# Altium footprint library PCB_Lib.PcbLib: 40 footprints (part 1 of 3)
Each footprint in its own frame and in the unit in brackets; x right, y up, seen from the top. Pads: shape width x height; smd on the part's side, far side on the other; paste and mask are expansions set on the pad; w line width, h text height; cw(c..) or ccw(c..) is an arc to the next point about the centre after c.
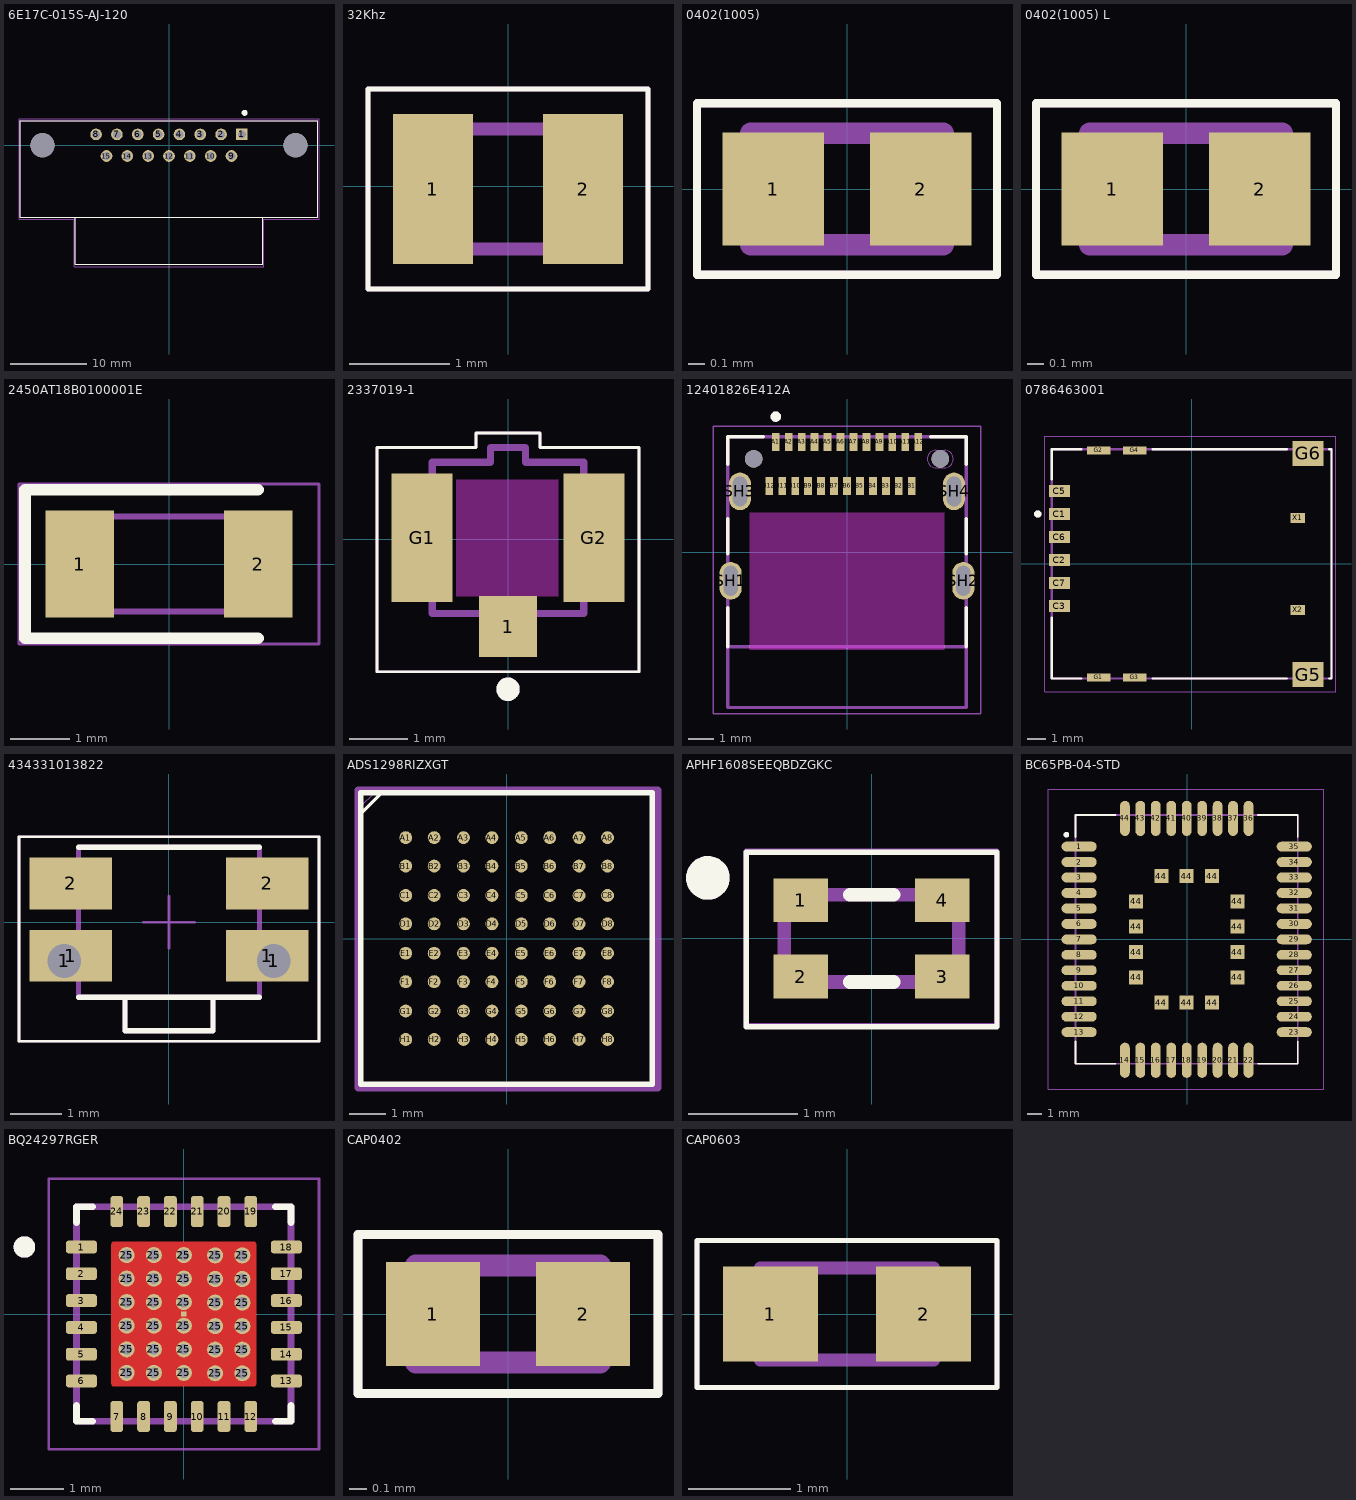
[diagram p0: the footprints below, top view; thin cyan lines are the x and y axes]

## 6E17C-015S-AJ-120 [mm] "15 Position D-Sub Receptacle, Female Sockets Connector"
pads (17):
  rect 1.53x1.53 hole 1.02: 1(9.576,1.397)
  round 1.53 hole 1.02: 2(6.833,1.397) 3(4.089,1.397) 4(1.346,1.397) 5(-1.397,1.397) 6(-4.14,1.397) 7(-6.883,1.397) 8(-9.627,1.397) 9(8.204,-1.448) 10(5.461,-1.448) 11(2.718,-1.448) 12(-0.025,-1.448) 13(-2.769,-1.448) 14(-5.512,-1.448) 15(-8.255,-1.448)
  round 3.175 hole 3.175 unplated: ""(-16.688,-0.025) ""(16.637,-0.025)
Top Overlay:
  circle w0.4: c9.931,4.242 r0.2
  lines w0.127: -12.357,-9.525 12.306,-9.525 ; -12.357,-9.525 -19.596,-9.525 -19.596,3.175 19.545,3.175 19.545,-9.525 12.306,-9.525 ; -12.357,-9.525 -12.357,-15.672 12.306,-15.672 12.306,-9.525
Mechanical 13:
  circle w0.4: c9.576,1.397 r0.2
  lines w0.127: -12.357,-9.525 12.306,-9.525 ; -12.357,-9.525 -19.596,-9.525 -19.596,3.175 19.545,3.175 19.545,-9.525 12.306,-9.525 ; -12.357,-9.525 -12.357,-15.672 12.306,-15.672 12.306,-9.525
Mechanical 15:
  lines w0.05: -19.775,-9.775 -12.525,-9.775 -12.525,-16.025 12.475,-16.025 12.475,-9.775 19.725,-9.775 19.725,3.475 -19.775,3.475 -19.775,-9.775
3D body "6E17C015SAJ120--3DModel-STEP-533217.STEP": height 12.55, standoff -4.1, extent -19.549,-15.519 19.651,3.127

## 32Khz [mm]
pads (2):
  rect 0.8x1.5 smd: 1(-0.75,-0.025) 2(0.75,-0.025)
Top Overlay:
  lines w0.05: -1.4,-1.025 -1.4,0.975 1.4,0.975 1.4,-1.025 -1.4,-1.025
Mechanical 13:
  lines w0.127: -1,-0.625 1,-0.625 1,0.575 -1,0.575 -1,-0.625
Mechanical 15:
  lines w0.05: -1.4,-1.025 1.4,-1.025 1.4,0.975 -1.4,0.975 -1.4,-1.025
3D body "step_temp.STEP": height 0.6, standoff 0, extent -1,-0.625 1,0.575

## 0402(1005) [mm]
pads (2):
  rect 0.6x0.67 smd: 1(-0.437,0) 2(0.437,0)
Top Overlay:
  lines w0.05: -0.889,-0.508 0.889,-0.508 0.889,0.508 -0.889,0.508 -0.889,-0.508
Mechanical 13:
  lines w0.127: -0.57,-0.33 -0.57,0.33 0.57,0.33 0.57,-0.33 -0.57,-0.33
Mechanical 15:
  lines w0.05: -0.889,-0.508 -0.889,0.508 0.889,0.508 0.889,-0.508 -0.889,-0.508
3D body "step_temp.STEP": height 0.5, standoff 0, extent -0.5,-0.25 0.5,0.25

## 0402(1005) L [mm]
pads (2):
  rect 0.6x0.67 smd: 1(-0.437,0) 2(0.437,0)
Top Overlay:
  lines w0.05: -0.889,-0.508 0.889,-0.508 0.889,0.508 -0.889,0.508 -0.889,-0.508
Mechanical 13:
  lines w0.127: -0.57,-0.33 -0.57,0.33 0.57,0.33 0.57,-0.33 -0.57,-0.33
Mechanical 15:
  lines w0.05: -0.889,-0.508 -0.889,0.508 0.889,0.508 0.889,-0.508 -0.889,-0.508
3D body "LQG15HS2N2B02D.STEP": height 0.55, standoff 0, extent -0.5,-0.25 0.5,0.25

## 2450AT18B0100001E [mm]
pads (2):
  rect 1.15x1.8 smd: 1(-1.5,0) 2(1.5,0)
Top Overlay:
  lines w0.2: 1.5,-1.25 -2.425,-1.25 -2.425,1.25 1.5,1.25
Mechanical 13:
  lines w0.05: -2.525,-1.35 -2.525,1.35 2.525,1.35 2.525,-1.35 -2.525,-1.35
  lines w0.1: -1.6,0.225 -1.025,0.8 ; -1.6,-0.8 -1.6,0.8 1.6,0.8 1.6,-0.8 -1.6,-0.8
Mechanical 15:
  lines w0.05: -2.525,-1.35 -2.525,1.35 2.525,1.35 2.525,-1.35 -2.525,-1.35
3D body "step_temp.STEP": height 1.38, standoff -0.01, extent -1.6,-0.8 1.6,0.8

## 2337019-1 [mm] "U.FL (UMCC) Connector Receptacle, Male Pin 50 Ohms Surface Mount Solder"
pads (3):
  rect 1x1.05 smd: 1(0,-1.5)
  rect 1.05x2.2 smd: G1(-1.475,0.025) G2(1.475,0.025)
Top Overlay:
  circle w0.2: c0,-2.575 r0.1
  lines w0.05: -2.25,-2.275 -2.25,1.575 -0.55,1.575 -0.55,1.825 0.55,1.825 0.55,1.575 2.25,1.575 2.25,-2.275 -2.25,-2.275
Keep-Out Layer:
  region: 0.861,-0.975 -0.889,-0.975 -0.889,1.025 0.861,1.025
Mechanical 13:
  circle w0.2: c0,-2.575 r0.1
  lines w0.127: -1.3,-1.275 -1.3,1.325 -0.3,1.325 -0.3,1.575 0.3,1.575 0.3,1.325 1.3,1.325 1.3,-1.275 -1.3,-1.275
Mechanical 15:
  lines w0.05: -2.25,-2.275 -2.25,1.575 -0.55,1.575 -0.55,1.825 0.55,1.825 0.55,1.575 2.25,1.575 2.25,-2.275 -2.25,-2.275
3D body "2337019-1--3DModel-STEP-78480.STEP": height 1.24, standoff -0.01, extent -1.5,-1.525 1.5,1.575

## 12401826E412A [mm] "USB-C (USB TYPE-C) USB 3.2 Gen 2 (USB 3.1 Gen 2, Superspeed + (USB 3.1)) Receptacle Connector 24 Position Surface Mount, Right Angle; Through Hole"
pads (30):
  rect 0.3x0.7 smd mask+0.05: A1(-2.75,4.25) A2(-2.25,4.25) A3(-1.75,4.25) A4(-1.25,4.25) A5(-0.75,4.25) A6(-0.25,4.25) A7(0.25,4.25) A8(0.75,4.25) A9(1.25,4.25) A10(1.75,4.25) A11(2.25,4.25) A12(2.75,4.25) B1(2.5,2.55) B2(2,2.55) B3(1.5,2.55) B4(1,2.55) B5(0.5,2.55) B6(0,2.55) B7(-0.5,2.55) B8(-1,2.55) B9(-1.5,2.55) B10(-2,2.55) B11(-2.5,2.55) B12(-3,2.55)
  oval 0.85x1.45 hole 0.55 slot 1.15 at 90 deg: SH1(-4.49,-1.11) SH2(4.49,-1.11) SH3(-4.13,2.34) SH4(4.13,2.34)
  round 0.675 hole 0.675 unplated: ""(-3.6,3.59) ""(3.6,3.59)
Top Overlay:
  circle w0.2: c-2.75,5.225 r0.1
  lines w0.127: -4.6,-3.65 -4.6,-2.155 ; -4.6,-0.065 -4.6,1.295 ; -4.6,3.385 -4.6,4.45 -3.23,4.45 ; 3.23,4.45 4.6,4.45 4.6,3.385 ; 4.6,-3.65 4.6,-2.155 ; 4.6,-0.065 4.6,1.295
Top Solder:
  region: 3.808,4.025 3.831,4.022 3.853,4.018 3.876,4.013 3.898,4.006 3.919,3.998 3.94,3.99 3.961,3.98 3.981,3.969 4.001,3.957 4.02,3.944 4.038,3.93 4.055,3.915 4.072,3.899 4.088,3.883 4.103,3.865 4.116,3.847 4.129,3.828 4.141,3.809 4.152,3.789 4.162,3.768 4.171,3.747 4.179,3.725 4.185,3.703 4.19,3.681 4.195,3.658 4.198,3.636 4.199,3.613 4.2,3.59 4.199,3.567 4.198,3.544 4.195,3.522 4.19,3.499 4.185,3.477 4.179,3.455 4.171,3.433 4.162,3.412 4.152,3.391 4.141,3.371 4.129,3.352 4.116,3.333 4.103,3.315 4.088,3.297 4.072,3.281 4.055,3.265 4.038,3.25 4.02,3.236 4.001,3.223 3.981,3.211 3.961,3.2 3.94,3.19 3.919,3.182 3.898,3.174 3.876,3.167 3.853,3.162 3.831,3.158 3.808,3.155 3.785,3.153 3.763,3.152 3.438,3.152 3.437,3.153 3.415,3.153 3.392,3.155 3.369,3.158 3.347,3.162 3.324,3.167 3.302,3.174 3.281,3.182 3.26,3.19 3.239,3.2 3.219,3.211 3.199,3.223 3.18,3.236 3.162,3.25 3.145,3.265 3.128,3.281 3.112,3.297 3.097,3.315 3.084,3.333 3.071,3.352 3.059,3.371 3.048,3.391 3.038,3.412 3.029,3.433 3.021,3.455 3.015,3.477 3.01,3.499 3.005,3.522 3.002,3.544 3.001,3.567 3,3.59 3.001,3.613 3.002,3.636 3.005,3.658 3.01,3.681 3.015,3.703 3.021,3.725 3.029,3.747 3.038,3.768 3.048,3.789 3.059,3.809 3.071,3.828 3.084,3.847 3.097,3.865 3.112,3.883 3.128,3.899 3.145,3.915 3.162,3.93 3.18,3.944 3.199,3.957 3.219,3.969 3.239,3.98 3.26,3.99 3.281,3.998 3.302,4.006 3.324,4.013 3.347,4.018 3.369,4.022 3.392,4.025 3.415,4.027 3.785,4.027
Bottom Solder:
  region: 3.808,4.025 3.831,4.022 3.853,4.018 3.876,4.013 3.898,4.006 3.919,3.998 3.94,3.99 3.961,3.98 3.981,3.969 4.001,3.957 4.02,3.944 4.038,3.93 4.055,3.915 4.072,3.899 4.088,3.883 4.103,3.865 4.116,3.847 4.129,3.828 4.141,3.809 4.152,3.789 4.162,3.768 4.171,3.747 4.179,3.725 4.185,3.703 4.19,3.681 4.195,3.658 4.198,3.636 4.199,3.613 4.2,3.59 4.199,3.567 4.198,3.544 4.195,3.522 4.19,3.499 4.185,3.477 4.179,3.455 4.171,3.433 4.162,3.412 4.152,3.391 4.141,3.371 4.129,3.352 4.116,3.333 4.103,3.315 4.088,3.297 4.072,3.281 4.055,3.265 4.038,3.25 4.02,3.236 4.001,3.223 3.981,3.211 3.961,3.2 3.94,3.19 3.919,3.182 3.898,3.174 3.876,3.167 3.853,3.162 3.831,3.158 3.808,3.155 3.785,3.153 3.762,3.153 3.763,3.152 3.438,3.152 3.415,3.153 3.392,3.155 3.369,3.158 3.347,3.162 3.324,3.167 3.302,3.174 3.281,3.182 3.26,3.19 3.239,3.2 3.219,3.211 3.199,3.223 3.18,3.236 3.162,3.25 3.145,3.265 3.128,3.281 3.112,3.297 3.097,3.315 3.084,3.333 3.071,3.352 3.059,3.371 3.048,3.391 3.038,3.412 3.029,3.433 3.021,3.455 3.015,3.477 3.01,3.499 3.005,3.522 3.002,3.544 3.001,3.567 3,3.59 3.001,3.613 3.002,3.636 3.005,3.658 3.01,3.681 3.015,3.703 3.021,3.725 3.029,3.747 3.038,3.768 3.048,3.789 3.059,3.809 3.071,3.828 3.084,3.847 3.097,3.865 3.112,3.883 3.128,3.899 3.145,3.915 3.162,3.93 3.18,3.944 3.199,3.957 3.219,3.969 3.239,3.98 3.26,3.99 3.281,3.998 3.302,4.006 3.324,4.013 3.347,4.018 3.369,4.022 3.392,4.025 3.415,4.027 3.785,4.027
Keep-Out Layer:
  region: 3.75,-3.766 -3.75,-3.766 -3.75,1.524 3.75,1.524
Mechanical 1:
  lines w0: 3.1,3.59 ccw(c3.437,3.59) 3.437,3.253 3.762,3.253 ccw(c3.762,3.59) 4.1,3.59 ccw(c3.762,3.59) 3.762,3.928 3.437,3.928 ccw(c3.437,3.59) 3.1,3.59
Mechanical 13:
  circle w0.2: c-2.75,5.225 r0.1
  lines w0.127: 4.572,-3.65 -4.6,-3.65 ; -4.6,-3.65 -4.6,-6 4.6,-6 4.6,4.45 -4.6,4.45 -4.6,-3.65
Mechanical 15:
  lines w0.05: -5.165,-6.25 -5.165,4.85 5.165,4.85 5.165,-6.25 -5.165,-6.25
3D body "step_temp.STEP": height 3.28, standoff -1.9, extent -4.628,-6.007 4.572,4.483

## 0786463001 [mm] "6 Position Card Connector Micro SIM Surface Mount, Right Angle Gold"
pads (14):
  rect 1.15x0.65 smd: C1(-7.295,2.755) C2(-7.295,0.215) C3(-7.295,-2.325) C5(-7.295,4.025) C6(-7.295,1.485) C7(-7.295,-1.055)
  rect 1.3x0.45 smd: G1(-5.125,-6.27) G2(-5.125,6.27) G3(-3.125,-6.27) G4(-3.125,6.27)
  rect 1.7x1.4 smd: G5(6.435,-6.11) G6(6.435,6.1)
  rect 0.8x0.54 smd: X1(5.855,2.54) X2(5.855,-2.54)
Top Overlay:
  circle w0.2: c-8.49,2.755 r0.1
  lines w0.127: -7.725,-2.97 -7.725,-6.325 -6.095,-6.325 ; -7.725,4.67 -7.725,6.325 -6.095,6.325 ; -2.155,-6.325 5.265,-6.325 ; -2.155,6.325 5.265,6.325 ; 7.605,-6.325 7.725,-6.325 7.725,6.325 7.605,6.325
Mechanical 13:
  circle w0.2: c-8.49,2.755 r0.1
  lines w0.127: -7.725,-6.325 -7.725,6.325 7.725,6.325 7.725,-6.325 -7.725,-6.325
Mechanical 15:
  lines w0.05: -8.12,-7.06 7.975,-7.06 7.975,7.05 -8.12,7.05 -8.12,-7.06
3D body "step_temp.STEP": height 1.55, standoff 0, extent -7.76,-6.525 7.69,6.525

## 434331013822 [mm]
pads (6):
  round 0.65 hole 0.65: 1(-2.025,-0.75) 1(2.025,-0.75)
  rect 1.6x1 smd: 1(-1.9,-0.65) 1(1.9,-0.65) 2(-1.9,0.75) 2(1.9,0.75)
Top Overlay:
  lines w0.05: -2.9,-2.3 -2.9,1.65 2.9,1.65 2.9,-2.3 -2.9,-2.3
  lines w0.1: -1.75,-1.45 1.75,-1.45 ; -1.75,1.45 1.75,1.45 ; -0.85,-1.45 -0.85,-2.1 0.85,-2.1 0.85,-1.45
Top 3D Body:
  lines w0.1: -0.85,-1.45 -0.85,-2.1 0.85,-2.1 0.85,-1.45 ; -1.75,-1.45 1.75,-1.45 1.75,1.45 -1.75,1.45 -1.75,-1.45
Top Designator:
  lines w0.05: -0.5,0 0.5,0 ; 0,-0.5 0,0.5 ; -2.9,-2.3 -2.9,1.65 2.9,1.65 2.9,-2.3 -2.9,-2.3
Top Component Outline:
  lines w0.1: -0.85,-1.45 -0.85,-2.1 0.85,-2.1 0.85,-1.45 ; -1.75,-1.45 -1.75,1.45 1.75,1.45 1.75,-1.45 -1.75,-1.45
3D body "434331013822.stp": height 1.35, standoff -0.6, extent -2.35,-2.1 2.35,1.45

## ADS1298RIZXGT [mil] "8 Channel AFE 24 Bit 14.1 mW 64-NFBGA (8x8)"
pads (64):
  round 14 smd: A1(-110,110) A2(-79,110) A3(-47,110) A4(-16,110) A5(16,110) A6(47,110) A7(79,110) A8(110,110) B1(-110,79) B2(-79,79) B3(-47,79) B4(-16,79) B5(16,79) B6(47,79) B7(79,79) B8(110,79) C1(-110,47) C2(-79,47) C3(-47,47) C4(-16,47) C5(16,47) C6(47,47) C7(79,47) C8(110,47) D1(-110,16) D2(-79,16) D3(-47,16) D4(-16,16) D5(16,16) D6(47,16) D7(79,16) D8(110,16) E1(-110,-16) E2(-79,-16) E3(-47,-16) E4(-16,-16) E5(16,-16) E6(47,-16) E7(79,-16) E8(110,-16) F1(-110,-47) F2(-79,-47) F3(-47,-47) F4(-16,-47) F5(16,-47) F6(47,-47) F7(79,-47) F8(110,-47) G1(-110,-79) G2(-79,-79) G3(-47,-79) G4(-16,-79) G5(16,-79) G6(47,-79) G7(79,-79) G8(110,-79) H1(-110,-110) H2(-79,-110) H3(-47,-110) H4(-16,-110) H5(16,-110) H6(47,-110) H7(79,-110) H8(110,-110)
Top Overlay:
  lines w1.97: -160,130 -160,135
  lines w4: -160,135 -135,160
  lines w6: -159,-159 159,-159 159,159 -159,159 -159,-159
Mechanical 13:
  lines w0: -159,144 -144,159 ; -159,-159 159,-159 159,159 -159,159 -159,-159
Mechanical 15:
  lines w7.87: -162,-163 165,-163 165,162 -162,162 -162,-163
3D body "ADS1298RIZXGT.STEP": height 57.09, standoff 0, extent -158.96,-158.96 156,156

## APHF1608SEEQBDZGKC [mm]
pads (4):
  rect 0.5x0.4 smd: 1(-0.65,0.35) 2(-0.65,-0.35) 3(0.65,-0.35) 4(0.65,0.35)
Top Overlay:
  circle w0.2: c-1.5,0.554 r0.1
  lines w0.05: -1.149,-0.812 -1.149,0.788 1.151,0.788 1.151,-0.812 -1.149,-0.812
  lines w0.127: -0.2,-0.4 0.2,-0.4 ; -0.2,0.4 0.2,0.4
Mechanical 13:
  circle w0.2: c-1.5,0.554 r0.1
  lines w0.127: -0.8,-0.4 -0.8,0.4 0.8,0.4 0.8,-0.4 -0.8,-0.4
Mechanical 15:
  lines w0.05: -1.15,-0.8 -1.15,0.8 1.15,0.8 1.15,-0.8 -1.15,-0.8
3D body "step_temp.STEP": height 0.5, standoff 0, extent -0.8,-0.4 0.8,0.4

## BC65PB-04-STD [mm] "Cellular GPRS, GSM, LTE Transceiver Module Antenna Not Included Surface Mount"
pads (58):
  oval 2.5x0.7 smd paste-2: 1(-7.675,6.6) 2(-7.675,5.5) 3(-7.675,4.4) 4(-7.675,3.3) 5(-7.675,2.2) 6(-7.675,1.1) 7(-7.675,0) 8(-7.675,-1.1) 9(-7.675,-2.2) 10(-7.675,-3.3) 11(-7.675,-4.4) 12(-7.675,-5.5) 13(-7.675,-6.6) 23(7.625,-6.6) 24(7.625,-5.5) 25(7.625,-4.4) 26(7.625,-3.3) 27(7.625,-2.2) 28(7.625,-1.1) 29(7.625,0) 30(7.625,1.1) 31(7.625,2.2) 32(7.625,3.3) 33(7.625,4.4) 34(7.625,5.5) 35(7.625,6.6)
  oval 0.7x2.5 smd paste-2: 14(-4.425,-8.6) 15(-3.325,-8.6) 16(-2.225,-8.6) 17(-1.125,-8.6) 18(-0.025,-8.6) 19(1.075,-8.6) 20(2.175,-8.6) 21(3.275,-8.6) 22(4.375,-8.6) 36(4.375,8.6) 37(3.275,8.6) 38(2.175,8.6) 39(1.075,8.6) 40(-0.025,8.6) 41(-1.125,8.6) 42(-2.225,8.6) 43(-3.325,8.6) 44(-4.425,8.6)
  rect 1x1 smd paste-0.082: 44(-3.625,-2.7) 44(-3.625,-0.9) 44(-3.625,0.9) 44(-3.625,2.7) 44(-1.825,-4.5) 44(-1.825,4.5) 44(-0.025,-4.5) 44(-0.025,4.5) 44(1.775,-4.5) 44(1.775,4.5) 44(3.575,-2.7) 44(3.575,-0.9) 44(3.575,0.9) 44(3.575,2.7)
Top Overlay:
  circle w0.2: c-8.585,7.442 r0.1
  lines w0.127: -7.925,-7.27 -7.925,-8.85 -5.095,-8.85 ; -7.925,7.27 -7.925,8.85 -5.095,8.85 ; 5.045,-8.85 7.875,-8.85 7.875,-7.27 ; 5.045,8.85 7.875,8.85 7.875,7.27
Top Paste:
  drawing of 44 lines, arcs and shapes, not listed
Mechanical 13:
  circle w0.2: c-8.585,7.442 r0.1
  lines w0.127: -7.925,-8.85 -7.925,8.85 7.875,8.85 7.875,-8.85 -7.925,-8.85
Mechanical 15:
  lines w0.05: -9.881,-10.643 9.728,-10.643 9.728,10.694 -9.881,10.694 -9.881,-10.643
3D body "BC65--3DModel-STEP-269445.STEP": height 2.4, standoff 0, extent -7.951,-8.85 7.849,8.85

## BQ24297RGER [mm] "Charger IC Lithium Ion/Polymer 24-VQFN (4x4)"
pads (56):
  rrect45% 0.58x0.24 smd mask+0: 1(-1.913,1.25) 2(-1.913,0.75) 3(-1.913,0.25) 4(-1.913,-0.25) 5(-1.913,-0.75) 6(-1.913,-1.25) 13(1.913,-1.25) 14(1.913,-0.75) 15(1.913,-0.25) 16(1.913,0.25) 17(1.913,0.75) 18(1.913,1.25)
  rrect45% 0.24x0.58 smd mask+0: 7(-1.25,-1.913) 8(-0.75,-1.913) 9(-0.25,-1.913) 10(0.25,-1.913) 11(0.75,-1.913) 12(1.25,-1.913) 19(1.25,1.913) 20(0.75,1.913) 21(0.25,1.913) 22(-0.25,1.913) 23(-0.75,1.913) 24(-1.25,1.913)
  round 0.3 hole 0.2 mask+0: 25(-1.067,-1.098) 25(-1.067,-0.658) 25(-1.067,-0.219) 25(-1.067,0.221) 25(-1.067,0.66) 25(-1.067,1.1) 25(-0.559,-1.098) 25(-0.559,-0.658) 25(-0.559,-0.219) 25(-0.559,0.221) 25(-0.559,0.66) 25(-0.559,1.1) 25(0,-1.098) 25(0,-0.658) 25(0,-0.219) 25(0,0.221) 25(0,0.66) 25(0,1.1) 25(0,1.1) 25(0.584,-1.106) 25(0.584,-0.666) 25(0.584,-0.227) 25(0.584,0.213) 25(0.584,0.653) 25(0.584,1.092) 25(1.092,-1.106) 25(1.092,-0.666) 25(1.092,-0.227) 25(1.092,0.213) 25(1.092,0.653) 25(1.092,1.092)
  rect 0.1x0.1 smd paste-1 mask+0: 25(0,0)
Top Layer:
  region: 1.308,1.349 1.31,1.349 1.313,1.348 1.315,1.348 1.318,1.347 1.32,1.346 1.323,1.345 1.325,1.343 1.327,1.342 1.329,1.34 1.331,1.339 1.333,1.337 1.335,1.335 1.337,1.333 1.339,1.331 1.34,1.329 1.342,1.327 1.343,1.325 1.345,1.323 1.346,1.32 1.347,1.318 1.348,1.315 1.348,1.313 1.349,1.31 1.349,1.308 1.35,1.305 1.35,1.303 1.35,1.3 1.35,-1.3 1.35,-1.303 1.35,-1.305 1.349,-1.308 1.349,-1.31 1.348,-1.313 1.348,-1.315 1.347,-1.318 1.346,-1.32 1.345,-1.323 1.343,-1.325 1.342,-1.327 1.34,-1.329 1.339,-1.331 1.337,-1.333 1.335,-1.335 1.333,-1.337 1.331,-1.339 1.329,-1.34 1.327,-1.342 1.325,-1.343 1.323,-1.345 1.32,-1.346 1.318,-1.347 1.315,-1.348 1.313,-1.348 1.31,-1.349 1.308,-1.349 1.305,-1.35 -1.305,-1.35 -1.308,-1.349 -1.31,-1.349 -1.313,-1.348 -1.315,-1.348 -1.318,-1.347 -1.32,-1.346 -1.323,-1.345 -1.325,-1.343 -1.327,-1.342 -1.329,-1.34 -1.331,-1.339 -1.333,-1.337 -1.335,-1.335 -1.337,-1.333 -1.339,-1.331 -1.34,-1.329 -1.342,-1.327 -1.343,-1.325 -1.345,-1.323 -1.346,-1.32 -1.347,-1.318 -1.348,-1.315 -1.348,-1.313 -1.349,-1.31 -1.349,-1.308 -1.35,-1.305 -1.35,-1.303 -1.35,-1.3 -1.35,1.3 -1.35,1.303 -1.35,1.305 -1.349,1.308 -1.349,1.31 -1.348,1.313 -1.348,1.315 -1.347,1.318 -1.346,1.32 -1.345,1.323 -1.343,1.325 -1.342,1.327 -1.34,1.329 -1.339,1.331 -1.337,1.333 -1.335,1.335 -1.333,1.337 -1.331,1.339 -1.329,1.34 -1.327,1.342 -1.325,1.343 -1.323,1.345 -1.32,1.346 -1.318,1.347 -1.315,1.348 -1.313,1.348 -1.31,1.349 -1.308,1.349 -1.305,1.35 1.305,1.35
Top Overlay:
  circle w0.2: c-2.975,1.25 r0.1
  lines w0.127: -2,-1.705 -2,-2 -1.705,-2 ; -2,1.705 -2,2 -1.705,2 ; 1.705,-2 2,-2 2,-1.705 ; 1.705,2 2,2 2,1.705
Top Paste:
  drawing of 4 lines, arcs and shapes, not listed
Top Solder:
  drawing of 25 lines, arcs and shapes, not listed
Mechanical 13:
  circle w0.2: c-2.975,1.25 r0.1
  lines w0.127: -2,-2 2,-2 2,2 -2,2 -2,-2
Mechanical 15:
  lines w0.05: -2.522,-2.522 2.522,-2.522 2.522,2.522 -2.522,2.522 -2.522,-2.522
3D body "BQ24297RGER.STEP": height 1, standoff 0, extent -2,-2 2,2

## CAP0402 [mm] "0.1 µF ±10% 16V Ceramic Capacitor X7R 0402 (1005 Metric)"
pads (2):
  rect 0.54x0.6 smd: 1(-0.432,0) 2(0.432,0)
Top Overlay:
  lines w0.05: -0.864,-0.457 -0.864,0.457 0.864,0.457 0.864,-0.457 -0.864,-0.457
Mechanical 13:
  lines w0.127: -0.53,-0.28 -0.53,0.28 0.53,0.28 0.53,-0.28 -0.53,-0.28
Mechanical 15:
  lines w0.05: -0.864,-0.457 0.864,-0.457 ; -0.864,-0.457 -0.864,0.457 ; -0.864,-0.457 0.864,-0.457 ; -0.864,-0.457 -0.864,0.457 ; -0.864,0.457 0.864,0.457 ; -0.864,0.457 0.864,0.457 ; 0.864,-0.457 0.864,0.457 ; 0.864,-0.457 0.864,0.457
3D body "step_temp.STEP": height 0.55, standoff 0, extent -0.5,-0.25 0.5,0.25

## CAP0603 [mm]
pads (2):
  rect 0.93x0.93 smd: 1(-0.75,0) 2(0.75,0)
Top Overlay:
  lines w0.05: -1.47,-0.72 1.47,-0.72 1.47,0.72 -1.47,0.72 -1.47,-0.72
Mechanical 13:
  lines w0.127: -0.85,-0.45 0.85,-0.45 0.85,0.45 -0.85,0.45 -0.85,-0.45
Mechanical 15:
  lines w0.05: -1.47,-0.72 -1.47,0.72 1.47,0.72 1.47,-0.72 -1.47,-0.72
3D body "step_temp.STEP": height 0.77, standoff -0.03, extent -0.8,-0.4 0.8,0.4

## CM8V-T1A-32.768KHZ-12.5PF-20PPM-TA-QA [mm]